# Altium footprint library Rotary_Encoder.PcbLib: 23 footprints (part 2 of 2)
Each footprint in its own frame and in the unit in brackets; x right, y up, seen from the top. Pads: shape width x height; smd on the part's side, far side on the other; paste and mask are expansions set on the pad; w line width, h text height; cw(c..) or ccw(c..) is an arc to the next point about the centre after c.
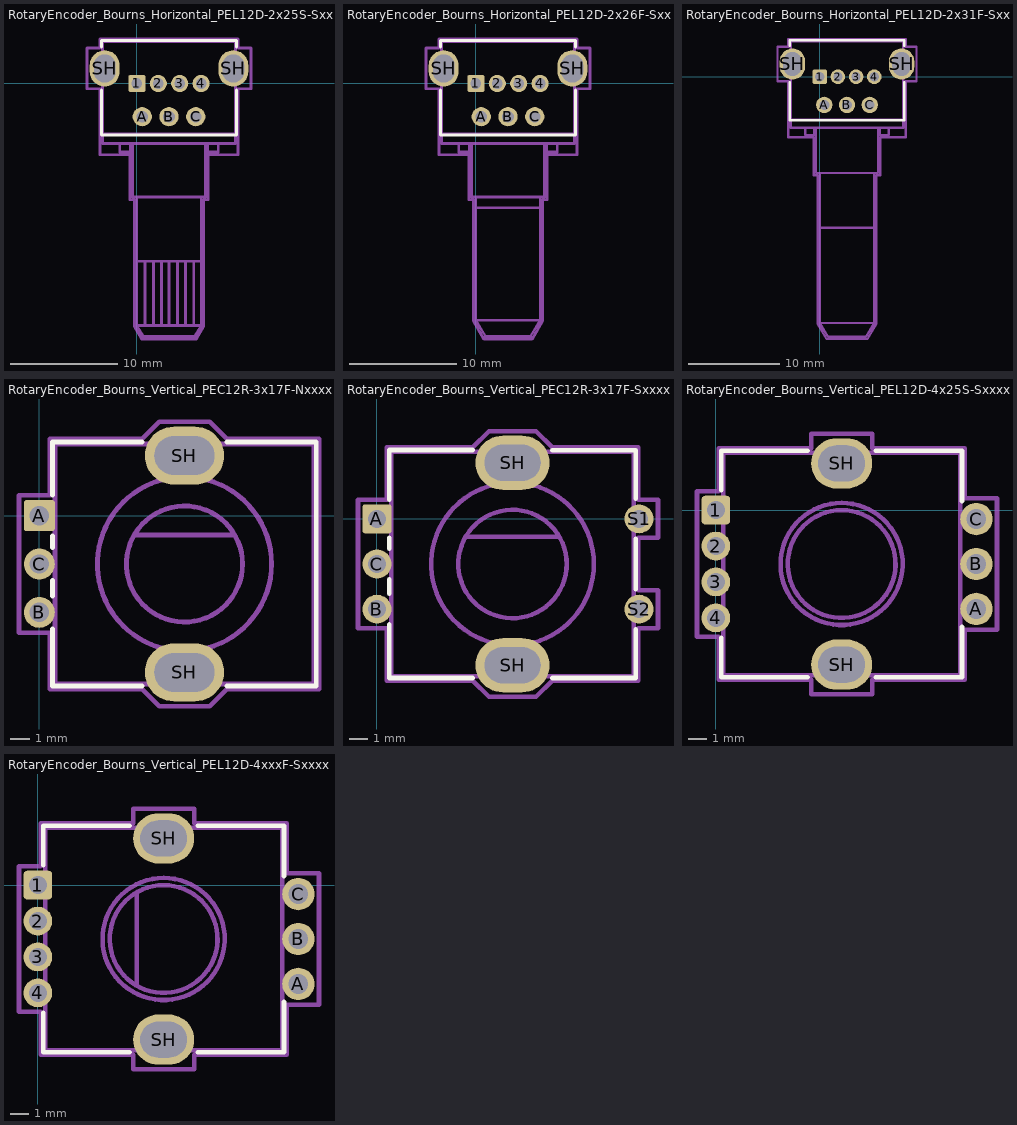
[diagram p1: the footprints below, top view; thin cyan lines are the x and y axes]

## RotaryEncoder_Bourns_Horizontal_PEL12D-2x25S-Sxxxx [mm]
pads (9):
  rrect25% 1.6x1.6 hole 1: 1(0,0)
  round 1.6 hole 1: 2(2,0) 3(4,0) 4(6,0)
  round 1.8 hole 1.1: A(0.5,-3.1) B(3,-3.1) C(5.5,-3.1)
  rrect100% 2.8x3.4 hole 2 slot 2.6 at 90 deg: SH(-3,1.4) SH(9,1.4)
F.SilkS:
  lines w0.254: -3.3,-0.6 -3.3,-4.8 9.3,-4.8 9.3,-0.6 ; -3.3,3.4 -3.3,4 9.3,4 9.3,3.4
F.Fab:
  lines w0.254: -3.2,-4.7 9.2,-4.7 ; -1.6,-5.6 -1.6,-6.4 -0.6,-6.4 -0.6,-5.6 ; -0.4,-5.6 -0.4,-10.6 6.4,-10.6 6.4,-5.6 ; 0,-16.6 6,-16.6 ; 0,-10.6 0,-22.6 ; 0.75,-22.6 0.75,-16.6 ; 1.55,-22.6 1.55,-16.6 ; 2.3,-22.6 2.3,-16.6 ; 3,-22.6 3,-16.6 ; 3.8,-22.6 3.8,-16.6 ; 4.55,-22.6 4.55,-16.6 ; 5.3,-22.6 5.3,-16.6 ; 6,-10.6 6,-22.6 ; 6.6,-5.6 6.6,-6.4 7.6,-6.4 7.6,-5.6 ; 0,-22.6 0.6,-23.6 5.4,-23.6 6,-22.6 ; 0,-22.6 6,-22.6 ; -3.2,-5.6 -3.2,3.9 9.2,3.9 9.2,-5.6 -3.2,-5.6
  text "'.Designator'" at -1.047,0.46 h1
F.CrtYd:
  lines w0.254: -4.65,-0.5 -4.65,3.3 -3.45,3.3 -3.45,4.15 9.45,4.15 9.45,3.3 10.65,3.3 10.65,-0.5 9.45,-0.5 9.45,-6.65 6.65,-6.65 6.65,-10.85 6.25,-10.85 6.25,-22.65 5.55,-23.85 0.45,-23.85 -0.25,-22.65 -0.25,-10.85 -0.65,-10.85 -0.65,-6.65 -3.45,-6.65 -3.45,-0.5 -4.65,-0.5

## RotaryEncoder_Bourns_Horizontal_PEL12D-2x26F-Sxxxx [mm]
pads (9):
  rrect25% 1.6x1.6 hole 1: 1(0,0)
  round 1.6 hole 1: 2(2,0) 3(4,0) 4(6,0)
  round 1.8 hole 1.1: A(0.5,-3.1) B(3,-3.1) C(5.5,-3.1)
  rrect100% 2.8x3.4 hole 2 slot 2.6 at 90 deg: SH(-3,1.4) SH(9,1.4)
F.SilkS:
  lines w0.254: -3.3,-0.6 -3.3,-4.8 9.3,-4.8 9.3,-0.6 ; -3.3,3.4 -3.3,4 9.3,4 9.3,3.4
F.Fab:
  lines w0.254: -3.2,-4.7 9.2,-4.7 ; -1.6,-5.6 -1.6,-6.4 -0.6,-6.4 -0.6,-5.6 ; -0.4,-5.6 -0.4,-10.6 6.4,-10.6 6.4,-5.6 ; 0,-11.6 6,-11.6 ; 0,-10.6 0,-22.1 ; 6,-10.6 6,-22.1 ; 6.6,-5.6 6.6,-6.4 7.6,-6.4 7.6,-5.6 ; 0,-22.1 0.9,-23.6 5.1,-23.6 6,-22.1 ; 0,-22.1 6,-22.1 ; -3.2,-5.6 -3.2,3.9 9.2,3.9 9.2,-5.6 -3.2,-5.6
  text "'.Designator'" at -1.047,0.46 h1
F.CrtYd:
  lines w0.254: -4.65,-0.5 -4.65,3.3 -3.45,3.3 -3.45,4.15 9.45,4.15 9.45,3.3 10.65,3.3 10.65,-0.5 9.45,-0.5 9.45,-6.65 6.65,-6.65 6.65,-10.85 6.25,-10.85 6.25,-22.15 5.25,-23.85 0.75,-23.85 -0.25,-22.15 -0.25,-10.85 -0.65,-10.85 -0.65,-6.65 -3.45,-6.65 -3.45,-0.5 -4.65,-0.5

## RotaryEncoder_Bourns_Horizontal_PEL12D-2x31F-Sxxxx [mm]
pads (9):
  rrect25% 1.6x1.6 hole 1: 1(0,0)
  round 1.6 hole 1: 2(2,0) 3(4,0) 4(6,0)
  round 1.8 hole 1.1: A(0.5,-3.1) B(3,-3.1) C(5.5,-3.1)
  rrect100% 2.8x3.4 hole 2 slot 2.6 at 90 deg: SH(-3,1.4) SH(9,1.4)
F.SilkS:
  lines w0.254: -3.3,-0.6 -3.3,-4.8 9.3,-4.8 9.3,-0.6 ; -3.3,3.4 -3.3,4 9.3,4 9.3,3.4
F.Fab:
  lines w0.254: -3.2,-4.7 9.2,-4.7 ; -1.6,-5.6 -1.6,-6.4 -0.6,-6.4 -0.6,-5.6 ; -0.4,-5.6 -0.4,-10.6 6.4,-10.6 6.4,-5.6 ; 0,-16.6 6,-16.6 ; 0,-10.6 0,-27.1 ; 6,-10.6 6,-27.1 ; 6.6,-5.6 6.6,-6.4 7.6,-6.4 7.6,-5.6 ; 0,-27.1 0.9,-28.6 5.1,-28.6 6,-27.1 ; 0,-27.1 6,-27.1 ; -3.2,-5.6 -3.2,3.9 9.2,3.9 9.2,-5.6 -3.2,-5.6
  text "'.Designator'" at -1.047,0.46 h1
F.CrtYd:
  lines w0.254: -4.65,-0.5 -4.65,3.3 -3.45,3.3 -3.45,4.15 9.45,4.15 9.45,3.3 10.65,3.3 10.65,-0.5 9.45,-0.5 9.45,-6.65 6.65,-6.65 6.65,-10.85 6.25,-10.85 6.25,-27.15 5.25,-28.85 0.75,-28.85 -0.25,-27.15 -0.25,-10.85 -0.65,-10.85 -0.65,-6.65 -3.45,-6.65 -3.45,-0.5 -4.65,-0.5

## RotaryEncoder_Bourns_Vertical_PEC12R-3x17F-Nxxxx [mm]
pads (5):
  rrect16% 1.6x1.6 hole 1: A(0,0)
  round 1.6 hole 1: B(0,-5) C(0,-2.5)
  rrect100% 4.1x3 hole 2 slot 3.1 at 0 deg: SH(7.5,-8.1) SH(7.5,3.1)
F.SilkS:
  lines w0.254: 0.69,-5.85 0.69,-8.81 5.3,-8.81 ; 0.69,-4.15 0.69,-3.35 ; 0.69,-1.65 0.69,-1.05 ; 0.69,1.05 0.69,3.81 5.3,3.81 ; 9.7,-8.81 14.31,-8.81 14.31,3.8 9.7,3.8
F.Fab:
  circle w0.254: c7.5,-2.5 r3
  circle w0.254: c7.5,-2.5 r4.5
  lines w0.254: 4.91,-1 10.09,-1 ; 0.8,-8.7 0.8,3.7 14.2,3.7 14.2,-8.7 0.8,-8.7
  text "'.Designator'" at 3.553,-3.34 h1
F.CrtYd:
  lines w0.254: -1.05,-6.05 -1.05,1.05 0.55,1.05 0.55,3.95 5.3,3.95 6.2,4.85 8.8,4.85 9.7,3.95 14.45,3.95 14.45,-8.95 9.7,-8.95 8.8,-9.85 6.2,-9.85 5.3,-8.95 0.55,-8.95 0.55,-6.05 -1.05,-6.05

## RotaryEncoder_Bourns_Vertical_PEC12R-3x17F-Sxxxx [mm]
pads (7):
  rrect16% 1.6x1.6 hole 1: A(0,0)
  round 1.6 hole 1: B(0,-5) C(0,-2.5) S1(14.5,0) S2(14.5,-5)
  rrect100% 4.1x3 hole 2 slot 3.1 at 0 deg: SH(7.5,-8.1) SH(7.5,3.1)
F.SilkS:
  lines w0.254: 0.69,-5.85 0.69,-8.81 5.3,-8.81 ; 0.69,-4.15 0.69,-3.35 ; 0.69,-1.65 0.69,-1.05 ; 0.69,1.05 0.69,3.81 5.3,3.81 ; 9.7,-8.81 14.31,-8.81 14.31,-6.1 ; 9.7,3.8 14.31,3.8 14.31,1.1 ; 14.31,-3.9 14.31,-1.1
F.Fab:
  circle w0.254: c7.5,-2.5 r3
  circle w0.254: c7.5,-2.5 r4.5
  lines w0.254: 4.91,-1 10.09,-1 ; 0.8,-8.7 0.8,3.7 14.2,3.7 14.2,-8.7 0.8,-8.7
  text "'.Designator'" at 3.553,-3.34 h1
F.CrtYd:
  lines w0.254: -1.05,-6.05 -1.05,1.05 0.55,1.05 0.55,3.95 5.3,3.95 6.2,4.85 8.8,4.85 9.7,3.95 14.45,3.95 14.45,1.05 15.55,1.05 15.55,-1.05 14.45,-1.05 14.45,-3.95 15.55,-3.95 15.55,-6.05 14.45,-6.05 14.45,-8.95 9.7,-8.95 8.8,-9.85 6.2,-9.85 5.3,-8.95 0.55,-8.95 0.55,-6.05 -1.05,-6.05

## RotaryEncoder_Bourns_Vertical_PEL12D-4x25S-Sxxxx [mm]
pads (9):
  rrect25% 1.6x1.6 hole 1: 1(0,0)
  round 1.6 hole 1: 2(0,-2) 3(0,-4) 4(0,-6)
  round 1.8 hole 1.1: A(14.5,-5.5) B(14.5,-3) C(14.5,-0.5)
  rrect100% 3.4x2.8 hole 2 slot 2.6 at 0 deg: SH(7,-8.6)
  rrect100% 3.4x2.8 hole 2.6 slot 2 at 90 deg: SH(7,2.6)
F.SilkS:
  lines w0.254: 0.3,-7.1 0.3,-9.3 5.1,-9.3 ; 0.3,1.1 0.3,3.3 5.1,3.3 ; 8.9,-9.3 13.7,-9.3 13.7,-6.5 ; 8.9,3.3 13.7,3.3 13.7,0.5
F.Fab:
  circle w0.254: c7,-3 r3.4
  circle w0.254: c7,-3 r3
  lines w0.254: 0.4,-9.2 0.4,3.2 13.6,3.2 13.6,-9.2 0.4,-9.2
  text "'.Designator'" at 2.953,-3.84 h1
F.CrtYd:
  lines w0.254: -1.05,-7.05 -1.05,1.05 0.15,1.05 0.15,3.45 5.3,3.45 5.3,4.25 8.7,4.25 8.7,3.45 13.85,3.45 13.85,0.65 15.65,0.65 15.65,-6.65 13.85,-6.65 13.85,-9.45 8.7,-9.45 8.7,-10.25 5.3,-10.25 5.3,-9.45 0.15,-9.45 0.15,-7.05 -1.05,-7.05

## RotaryEncoder_Bourns_Vertical_PEL12D-4xxxF-Sxxxx [mm]
pads (9):
  rrect25% 1.6x1.6 hole 1: 1(0,0)
  round 1.6 hole 1: 2(0,-2) 3(0,-4) 4(0,-6)
  round 1.8 hole 1.1: A(14.5,-5.5) B(14.5,-3) C(14.5,-0.5)
  rrect100% 3.4x2.8 hole 2 slot 2.6 at 0 deg: SH(7,-8.6)
  rrect100% 3.4x2.8 hole 2.6 slot 2 at 90 deg: SH(7,2.6)
F.SilkS:
  lines w0.254: 0.3,-7.1 0.3,-9.3 5.1,-9.3 ; 0.3,1.1 0.3,3.3 5.1,3.3 ; 8.9,-9.3 13.7,-9.3 13.7,-6.5 ; 8.9,3.3 13.7,3.3 13.7,0.5
F.Fab:
  circle w0.254: c7,-3 r3.4
  circle w0.254: c7,-3 r3
  lines w0.254: 5.5,-5.6 5.5,-0.4 ; 0.4,-9.2 0.4,3.2 13.6,3.2 13.6,-9.2 0.4,-9.2
  text "'.Designator'" at 2.953,-3.84 h1
F.CrtYd:
  lines w0.254: -1.05,-7.05 -1.05,1.05 0.15,1.05 0.15,3.45 5.3,3.45 5.3,4.25 8.7,4.25 8.7,3.45 13.85,3.45 13.85,0.65 15.65,0.65 15.65,-6.65 13.85,-6.65 13.85,-9.45 8.7,-9.45 8.7,-10.25 5.3,-10.25 5.3,-9.45 0.15,-9.45 0.15,-7.05 -1.05,-7.05